# EAGLE library part HDMI (library X893)
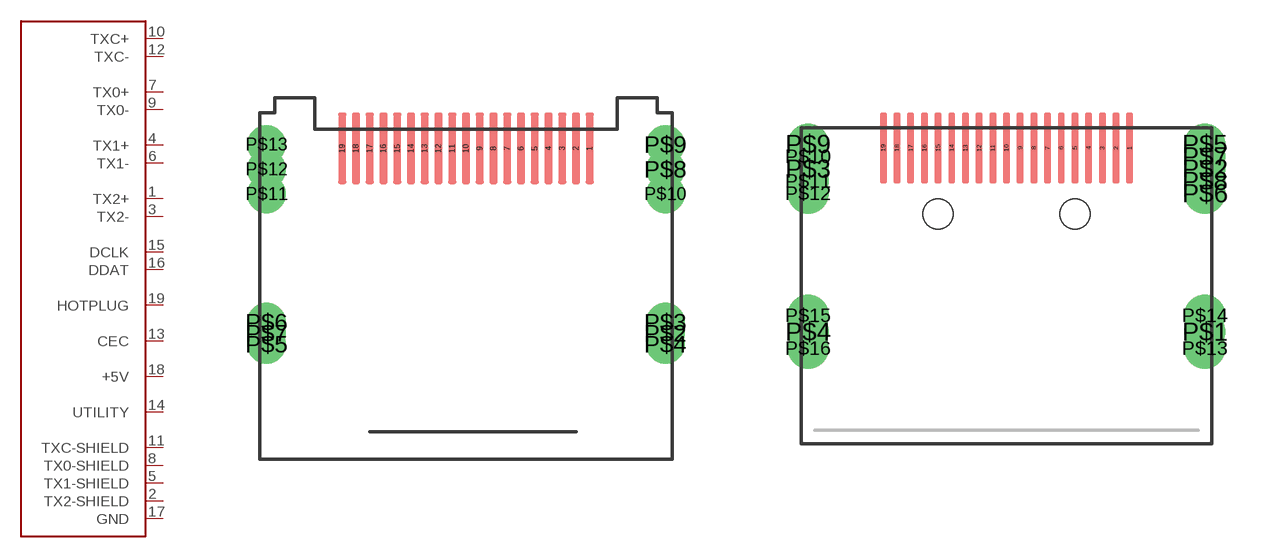
[diagram p229: symbol with the pads of 471511001; footprints 471511001, 1-1747981-1]

Designator prefix X

## HDMI-471511001  [471511001]
1  TX2+
2  TX2-SHIELD
3  TX2-
4  TX1+
5  TX1-SHIELD
6  TX1-
7  TX0+
8  TX0-SHIELD
9  TX0-
10  TXC+
11  TXC-SHIELD
12  TXC-
13  CEC
14  UTILITY
15  DCLK
16  DDAT
17  GND  pwr
18  +5V
19  HOTPLUG

## HDMI-1-1747981-1  [1-1747981-1]
Pads as for 471511001

## Footprint 471511001 (pad centres in mm)
smd 0.3 x 2.6: 1 4.5,10.31; 2 4,10.31; 3 3.5,10.31; 4 3,10.31; 5 2.5,10.31; 6 2,10.31; 7 1.5,10.31; 8 1,10.31; 9 0.5,10.31; 10 0,10.31; 11 -0.5,10.31; 12 -1,10.31; 13 -1.5,10.31; 14 -2,10.31; 15 -2.5,10.31; 16 -3,10.31; 17 -3.5,10.31; 18 -4,10.31; 19 -4.5,10.31
drill 0.9: P$2 7.25,3.59; P$3 7.25,3.99; P$4 7.25,3.19; P$5 -7.25,3.19; P$6 -7.25,3.99; P$7 -7.25,3.59; P$8 7.25,9.55; P$9 7.25,10.45; P$10 7.25,8.65; P$11 -7.25,8.65; P$12 -7.25,9.55; P$13 -7.25,10.45

## Footprint 1-1747981-1 (pad centres in mm)
HDMI TYCO 1-1747981-1 <http://www.terraelectronica.ru/ds/pdf/1/1-1747981-1.pdf>
smd 0.25 x 2.6: 1 4.5,10.31; 2 4,10.31; 3 3.5,10.31; 4 3,10.31; 5 2.5,10.31; 6 2,10.31; 7 1.5,10.31; 8 1,10.31; 9 0.5,10.31; 10 0,10.31; 11 -0.5,10.31; 12 -1,10.31; 13 -1.5,10.31; 14 -2,10.31; 15 -2.5,10.31; 16 -3,10.31; 17 -3.5,10.31; 18 -4,10.31; 19 -4.5,10.31
drill 0.9 pad 1.5: P$1 7.25,3.59; P$2 7.25,9.55; P$3 -7.25,9.55; P$4 -7.25,3.59; P$5 7.25,10.45; P$6 7.25,8.65; P$7 7.25,10; P$8 7.25,9.1; P$9 -7.25,10.45; P$10 -7.25,10; P$11 -7.25,9.1; P$12 -7.25,8.65; P$13 7.25,2.99; P$14 7.25,4.19; P$15 -7.25,4.19; P$16 -7.25,2.99
hole 1.1 at -2.5,7.9
hole 1.1 at 2.5,7.9